# Altium schematic symbol library SCH - TRANSISTOR - ROHM NPN SOT-323FL.Schlib: 1 symbol
Pins are listed as number, name and electrical type; pins without a type are passive.

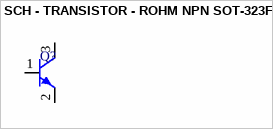
[diagram p0: symbol SCH - TRANSISTOR - ROHM NPN SOT-323FL]

## SCH - TRANSISTOR - ROHM NPN SOT-323FL
designator Q?
footprint SC-85 SOT-323FL UMT3F
pins: 1 B, 2 E, 3 C